# Altium footprint library LevelShifter_UART_TI_TXS0102_DQE-8.PcbLib: 1 footprints
Each footprint in its own frame and in the unit in brackets; x right, y up, seen from the top. Pads: shape width x height; smd on the part's side, far side on the other; paste and mask are expansions set on the pad; w line width, h text height; cw(c..) or ccw(c..) is an arc to the next point about the centre after c.
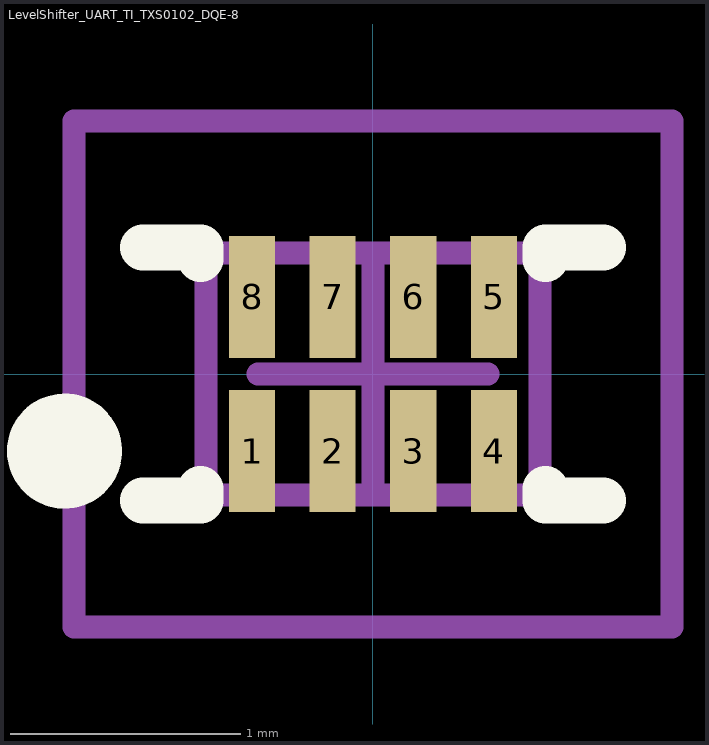
[diagram p0: the footprint, top view; thin cyan lines are the x and y axes]

## LevelShifter_UART_TI_TXS0102_DQE-8 [mm]
height 0.4
pads (8):
  rect 0.2x0.53 smd: 1(-0.525,-0.335) 2(-0.175,-0.335) 3(0.175,-0.335) 4(0.525,-0.335) 5(0.525,0.335) 6(0.175,0.335) 7(-0.175,0.335) 8(-0.525,0.335)
Top Overlay:
  circle w0.25: c-1.34,-0.335 r0.125
  lines w0.2: -1,-0.55 -0.75,-0.55 -0.75,-0.5 ; -1,0.55 -0.75,0.55 -0.75,0.5 ; 0.75,-0.5 0.75,-0.55 1,-0.55 ; 0.75,0.5 0.75,0.55 1,0.55
Mechanical 13:
  lines w0.1: -0.725,-0.525 0.725,-0.525 0.725,0.525 -0.725,0.525 -0.725,-0.525
Mechanical 15:
  lines w0.1: -0.5,0 0.5,0 ; 0,-0.5 0,0.5 ; -1.3,-1.1 1.3,-1.1 1.3,1.1 -1.3,1.1 -1.3,-1.1
3D body: height 0.4, standoff 0, extent -0.725,-0.525 0.725,0.525